# EAGLE library part BD65496MUV (library parts)
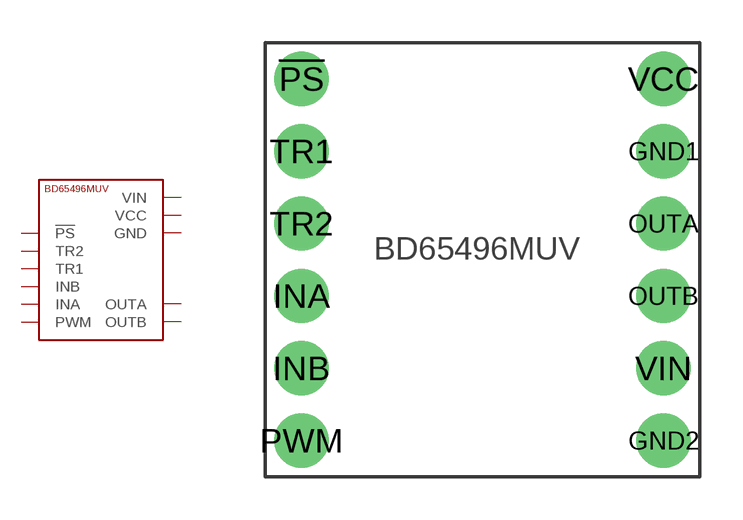
[diagram p0: symbol with the pads of BD65496MUV; footprint BD65496MUV]

Designator prefix -

## BD65496MUV  [BD65496MUV]
!PS  !PS
GND1  GND
GND2  GND
INA  INA
INB  INB
OUTA  OUTA
OUTB  OUTB
PWM  PWM
TR1  TR1
TR2  TR2
VCC  VCC
VIN  VIN

## Footprint BD65496MUV (pad centres in mm)
drill 1.27: !PS 1.27,13.97; GND1 13.97,11.43; GND2 13.97,1.27; INA 1.27,6.35; INB 1.27,3.81; OUTA 13.97,8.89; OUTB 13.97,6.35; PWM 1.27,1.27; TR1 1.27,11.43; TR2 1.27,8.89; VCC 13.97,13.97; VIN 13.97,3.81